# Altium schematic symbol library Lib.SchLib: 2 symbols
Pins are listed as number, name and electrical type; pins without a type are passive.

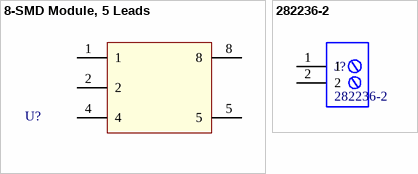
[diagram p0: symbols 8-SMD Module, 5 Leads to 282236-2]

## 8-SMD Module, 5 Leads
designator U?
8-SMD Module, 5 Leads ICs; ComponentLink1Description: Datasheet; ComponentLink1URL: https://recom-power.com/pdf/Econoline/R1S_R1D.pdf; Supplier 1: Digikey; Created By: Arda Kara
footprint 8-SMD Module, 5 Leads (Footprint for 8-SMD Module, 5 Leads ICs)
pins: 1, 2, 4, 5, 8

## 282236-2
designator J?
Modular Terminal Block, 13.5A, 1.5mm2, 1 Row(s), 1 Deck(s); Manufacturer: TE Connectivity; Manufacturer Part Number: 282836-2; Manufacturer Series: 282836; Fastening Method: SCREW; Number of Decks: 1; Number of Ways: 2; Voltage Rating: 300V; Wire/Cable Gauge: 15AWG; Safety Approval: UL; Supplier: Future Electronics; Supplier Part Number: 4188728; RoHS: Yes; Category: Terminal Blocks; Stock: 130643; Pricing: 300=0,37, 900=0,36, 1200=0,39, 1500=0,35, 3000=0,345, 4500=0,37, 6000=0,33 (USD); Mounting Technology: Board; Number of Rows: 1; Current Rating: 13.5A; Terminal and Terminal Block Type: MODULAR TERMINAL BLOCK; Wire Cross Section: 1.5mm2; RoHS Compliant: Yes; Reach SVHC Compliant: No; ComponentLink1URL: https://datasheet.ciiva.com:443/pdfs/VipMasterIC/IC/TYEL/TYEL-S-A0008743874/TYEL-S-A0008711552-1.pdf?src-supplier=IHS+Markit; ComponentLink1Description: https://datasheet.ciiva.com:443/pdfs/VipMasterIC/IC/TYEL/TYEL-S-A0008743874/TYEL-S-A0008711552-1.pdf?src-supplier=IHS+Markit; ComponentLink2URL: https://datasheet.ciiva.com/16393/282836-2-16393382.pdf?src-supplier=Future+Electronics; ComponentLink2Description: https://datasheet.ciiva.com/16393/282836-2-16393382.pdf?src-supplier=Future+Electronics; ComponentLink3URL: https://datasheet.ciiva.com/15169/getdatasheetpartid-155855-15169553.pdf?src-supplier=Verical; ComponentLink3Description: https://datasheet.ciiva.com/15169/getdatasheetpartid-155855-15169553.pdf?src-supplier=Verical; ComponentLink4URL: https://datasheet.ciiva.com/3141/eng-cs-1308389-eurostyle-terminal-blocks-0607-3141118.pdf?src-supplier=Avnet; ComponentLink4Description: https://datasheet.ciiva.com/3141/eng-cs-1308389-eurostyle-terminal-blocks-0607-3141118.pdf?src-supplier=Avnet
footprint 282236-2 (Modular Terminal Block, 13.5A, 1.5mm2, 1 Row(s), 1 Deck(s), 2 Screws)
pins: 1, 2